# EAGLE library part S89537 (library micrel)
Programmable Multi Output Bank Clock Synthesizer and Fanout Buffer, 3.3V Precision LVPECL and LVDS Source: http://www.micrel.com/_PDF/HBW/sy89537l.pdf
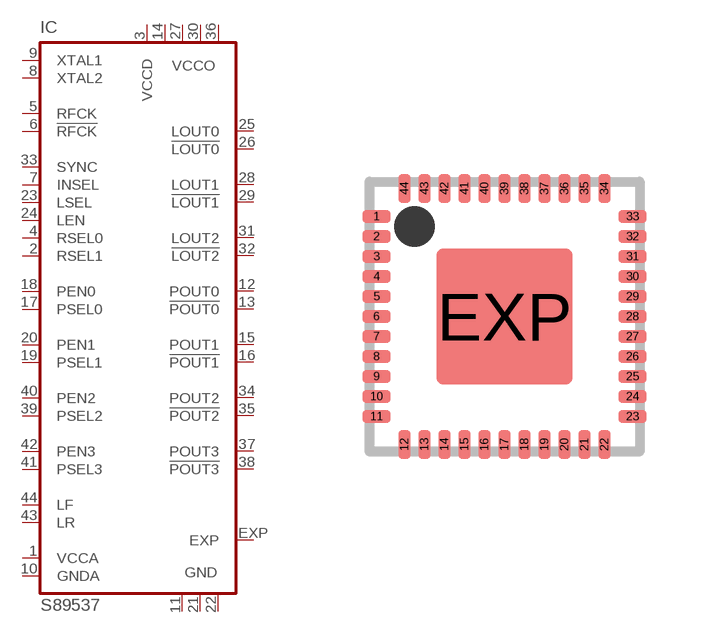
[diagram p1: symbol with the pads of MLF44; footprint MLF44]

Designator prefix IC

## S89537 (OC_FARNELL: unknown; OC_NEWARK: unknown)  [MLF44]
1  VCCA  pwr
2  RSEL1  in
3  VCCD  pwr
4  RSEL0  in
5  RFCK  in
6  !RFCK  in
7  INSEL  in
8  XTAL2  in
9  XTAL1  in
10  GNDA  pwr
11  GND  pwr
12  POUT0  out
13  !POUT0  out
14  VCCO  pwr
15  POUT1  out
16  !POUT1  out
17  PSEL0  in
18  PEN0  in
19  PSEL1  in
20  PEN1  in
21  GND  pwr
22  GND  pwr
23  LSEL  in
24  LEN  in
25  LOUT0  out
26  !LOUT0  out
27  VCCO  pwr
28  LOUT1  out
29  !LOUT1  out
30  VCCO  pwr
31  LOUT2  out
32  !LOUT2  out
33  SYNC  in
34  POUT2  out
35  !POUT2  out
36  VCCO  pwr
37  POUT3  out
38  !POUT3  out
39  PSEL2  in
40  PEN2  in
41  PSEL3  in
42  PEN3  in
43  LR
44  LF
EXP  EXP  pas

## Footprint MLF44 (pad centres in mm)
MLF-44 Micro Lead Frame Package Source: http://www.micrel.com/_PDF/HBW/sy89537l.pdf
smd 0.7 x 0.3: 1 -3.2,2.5; 2 -3.2,2; 3 -3.2,1.5; 4 -3.2,1; 5 -3.2,0.5; 6 -3.2,0; 7 -3.2,-0.5; 8 -3.2,-1; 9 -3.2,-1.5; 10 -3.2,-2; 11 -3.2,-2.5; 23 3.2,-2.5; 24 3.2,-2; 25 3.2,-1.5; 26 3.2,-1; 27 3.2,-0.5; 28 3.2,0; 29 3.2,0.5; 30 3.2,1; 31 3.2,1.5; 32 3.2,2; 33 3.2,2.5
smd 0.3 x 0.7: 12 -2.5,-3.2; 13 -2,-3.2; 14 -1.5,-3.2; 15 -1,-3.2; 16 -0.5,-3.2; 17 0,-3.2; 18 0.5,-3.2; 19 1,-3.2; 20 1.5,-3.2; 21 2,-3.2; 22 2.5,-3.2; 34 2.5,3.2; 35 2,3.2; 36 1.5,3.2; 37 1,3.2; 38 0.5,3.2; 39 0,3.2; 40 -0.5,3.2; 41 -1,3.2; 42 -1.5,3.2; 43 -2,3.2; 44 -2.5,3.2
smd 3.4 x 3.4: EXP 0,0